# Altium schematic symbol library MUN12AD06-SM.SchLib: 2 symbols
Pins are listed as number, name and electrical type; pins without a type are passive.

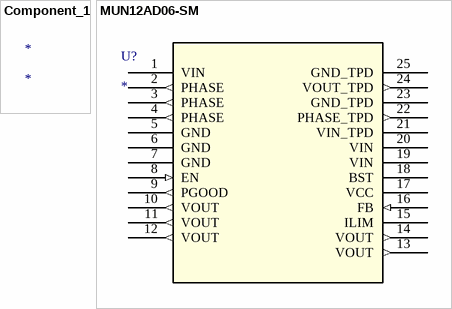
[diagram p0: symbols Component_1 to MUN12AD06-SM]

## Component_1
designator *

## MUN12AD06-SM
designator U?
No Description Available; Mfr_Name: Cyntec; RefDes: RefDes; Type: Type
footprint MUN12AD06-SM_CYN
pins: 1 VIN (power), 2 PHASE (out), 3 PHASE (out), 4 PHASE (out), 5 GND (power), 6 GND (power), 7 GND (power), 8 EN (in), 9 PGOOD (out), 10 VOUT (out), 11 VOUT (out), 12 VOUT (out), 13 VOUT (out), 14 VOUT (out), 15 ILIM, 16 FB (in), 17 VCC (power), 18 BST (power), 19 VIN (power), 20 VIN (power), 21 VIN_TPD (power), 22 PHASE_TPD (out), 23 GND_TPD (power), 24 VOUT_TPD (out), 25 GND_TPD (power)